# Altium schematic symbol library Printed_Eelctrodes_1.SchLib: 1 symbol
Pins are listed as number, name and electrical type; pins without a type are passive.

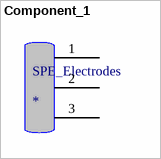
[diagram p0: symbol Component_1]

## Component_1
designator SPE_Electrodes
footprint SPE_Elctrodes
pins: 1, 2 31, 3 32